# EAGLE library part ADG333 (library Radicon)
ADG333A Quad SPDT Switch
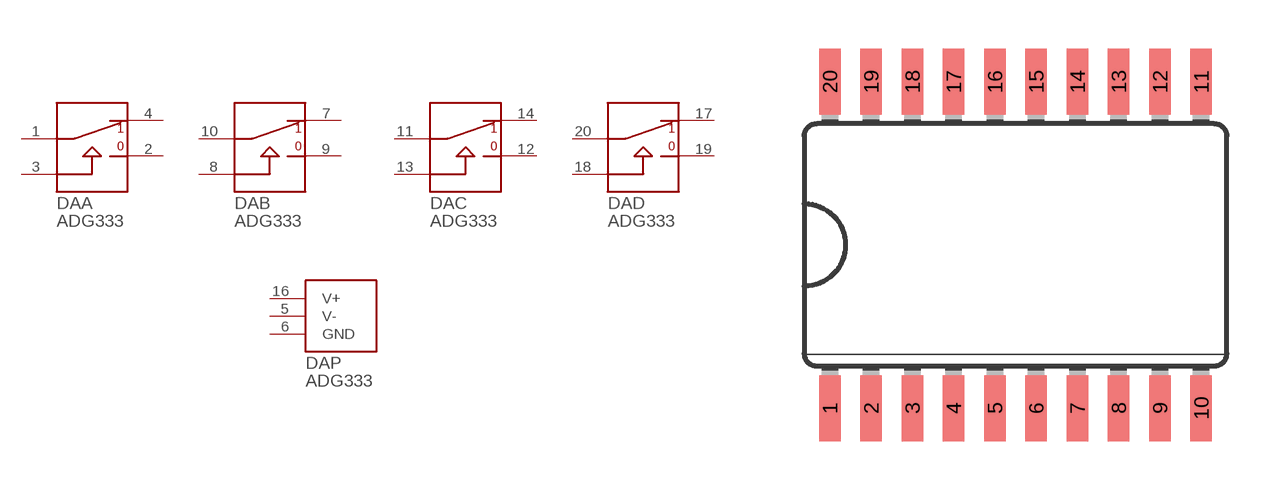
[diagram p46: symbol with the pads of SO20L; footprint SO20L]

Designator prefix DA; gates A=ADG_KEY B=ADG_KEY C=ADG_KEY D=ADG_KEY P=ADG_PWR

## ADG333  [SO20L]
1  A:IN
2  A:OUT0
3  A:CONTROL  in
4  A:OUT1
5  P:V-  pwr
6  P:GND  pwr
7  B:OUT1
8  B:CONTROL  in
9  B:OUT0
10  B:IN
11  C:IN
12  C:OUT0
13  C:CONTROL  in
14  C:OUT1
16  P:V+  pwr
17  D:OUT1
18  D:CONTROL  in
19  D:OUT0
20  D:IN

## Footprint SO20L (pad centres in mm)
Small Outline Package
smd 0.66 x 2.032: 1 -5.715,-5.029; 2 -4.445,-5.029; 3 -3.175,-5.029; 4 -1.905,-5.029; 5 -0.635,-5.029; 6 0.635,-5.029; 7 1.905,-5.029; 8 3.175,-5.029; 9 4.445,-5.029; 10 5.715,-5.029; 11 5.715,5.029; 12 4.445,5.029; 13 3.175,5.029; 14 1.905,5.029; 15 0.635,5.029; 16 -0.635,5.029; 17 -1.905,5.029; 18 -3.175,5.029; 19 -4.445,5.029; 20 -5.715,5.029